# Altium footprint library PCB - LEADED - MISC - NXP LFPAK56 SOT669.PCBLIB: 1 footprints
Each footprint in its own frame and in the unit in brackets; x right, y up, seen from the top. Pads: shape width x height; smd on the part's side, far side on the other; paste and mask are expansions set on the pad; w line width, h text height; cw(c..) or ccw(c..) is an arc to the next point about the centre after c.
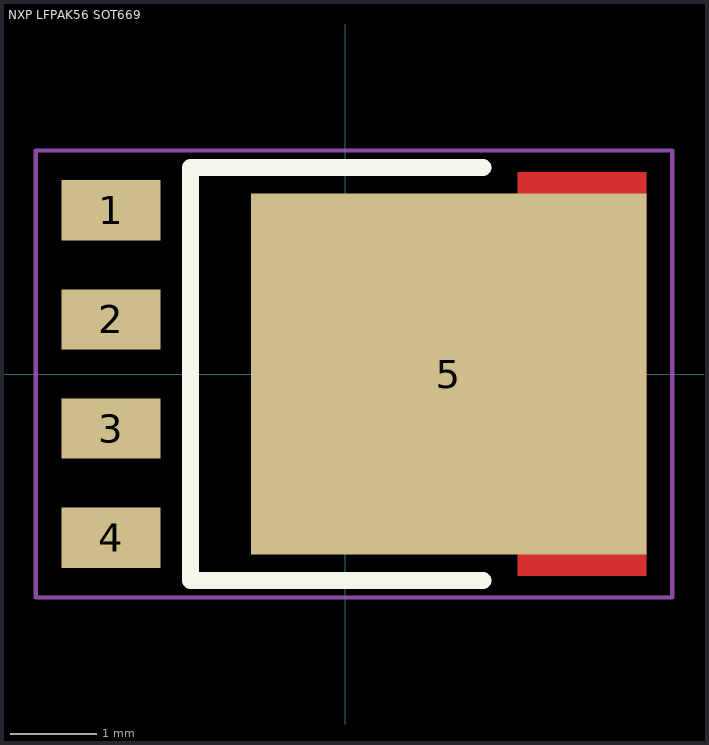
[diagram p0: the footprint, top view; thin cyan lines are the x and y axes]

## NXP LFPAK56 SOT669 [mm]
height 1
pads (5):
  rect 1.15x0.7 smd: 1(-2.725,1.905) 2(-2.725,0.635) 3(-2.725,-0.635) 4(-2.725,-1.905)
  rect 4.6x4.2 smd paste-5: 5(1.2,0)
Top Layer:
  rectangle: 2,-2.35 3.5,2.35
Top Overlay:
  lines w0.2: 1.6,-2.4 -1.8,-2.4 -1.8,2.4 1.6,2.4
Top Paste:
  rectangle: 2.55,1.605 3.45,2.205
  rectangle: 2.55,0.335 3.45,0.935
  rectangle: 2.55,-0.935 3.45,-0.335
  rectangle: 2.55,-2.205 3.45,-1.605
  rectangle: -0.85,0.7 -0.25,1.6
  rectangle: -0.85,-0.45 -0.25,0.45
  rectangle: -0.85,-1.6 -0.25,-0.7
  rectangle: 0,0.7 0.6,1.6
  rectangle: 0,-0.45 0.6,0.45
  rectangle: 0,-1.6 0.6,-0.7
  rectangle: 0.85,0.7 1.45,1.6
  rectangle: 0.85,-0.45 1.45,0.45
  rectangle: 0.85,-1.6 1.45,-0.7
Mechanical 15:
  lines w0.05: -3.6,-2.6 3.8,-2.6 3.8,2.6 -3.6,2.6 -3.6,-2.6
  lines w0.1: -0.5,0 0.5,0 ; 0,-0.5 0,0.5
3D body "Nexperia SOT669 LFPAK.step": height 1.2, standoff 0, extent -2.947,-2.45 3.275,2.45